# EAGLE library part EH_B10B-EH (library CASE-JST)
JST EH Connector, through hole, 10 pin, top entry Description: JST EH connector with 2.5 mm pitch, through hole version, 10 pin, top entry. Links: Datasheet <http://www.jst-mfg.com/product/pdf/eng/eEH.pdf>
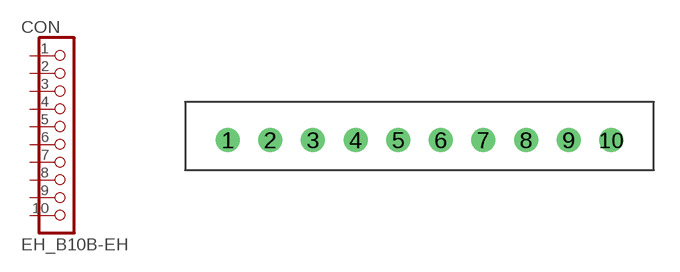
[diagram p22: symbol with the pads of B10B-EH; footprint B10B-EH]

Designator prefix CON

## EH_B10B-EH  [B10B-EH]
1  1  pas
2  2  pas
3  3  pas
4  4  pas
5  5  pas
6  6  pas
7  7  pas
8  8  pas
9  9  pas
10  10  pas

## Footprint B10B-EH (pad centres in mm)
JST B10B-EH Datasheet <http://www.jst-mfg.com/product/pdf/eng/eEH.pdf>
drill 0.9: 1 -11.25,0; 2 -8.75,0; 3 -6.25,0; 4 -3.75,0; 5 -1.25,0; 6 1.25,0; 7 3.75,0; 8 6.25,0; 9 8.75,0; 10 11.25,0